# EAGLE library part LTC4015 (library chargers)
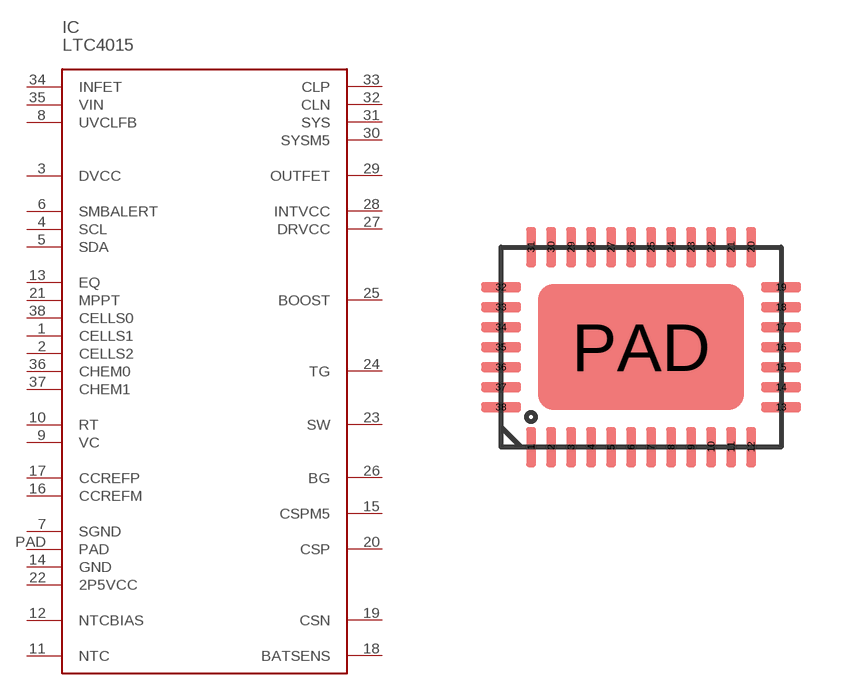
[diagram p1: symbol with the pads of QFN38; footprint QFN38]

Designator prefix IC

## LTC4015  [QFN38]
1  CELLS1
2  CELLS2
3  DVCC
4  SCL
5  SDA
6  SMBALERT
7  SGND
8  UVCLFB
9  VC
10  RT
11  NTC
12  NTCBIAS
13  EQ
14  GND
15  CSPM5
16  CCREFM
17  CCREFP
18  BATSENS
19  CSN
20  CSP
21  MPPT
22  2P5VCC
23  SW
24  TG
25  BOOST
26  BG
27  DRVCC
28  INTVCC
29  OUTFET
30  SYSM5
31  SYS
32  CLN
33  CLP
34  INFET
35  VIN
36  CHEM0
37  CHEM1
38  CELLS0
PAD  PAD

## Footprint QFN38 (pad centres in mm)
smd 0.25 x 1: 1 -2.75,-2.5; 2 -2.25,-2.5; 3 -1.75,-2.5; 4 -1.25,-2.5; 5 -0.75,-2.5; 6 -0.25,-2.5; 7 0.25,-2.5; 8 0.75,-2.5; 9 1.25,-2.5; 10 1.75,-2.5; 11 2.25,-2.5; 12 2.75,-2.5; 20 2.75,2.5; 21 2.25,2.5; 22 1.75,2.5; 23 1.25,2.5; 24 0.75,2.5; 25 0.25,2.5; 26 -0.25,2.5; 27 -0.75,2.5; 28 -1.25,2.5; 29 -1.75,2.5; 30 -2.25,2.5; 31 -2.75,2.5
smd 1 x 0.25: 13 3.5,-1.5; 14 3.5,-1; 15 3.5,-0.5; 16 3.5,0; 17 3.5,0.5; 18 3.5,1; 19 3.5,1.5; 32 -3.5,1.5; 33 -3.5,1; 34 -3.5,0.5; 35 -3.5,0; 36 -3.5,-0.5; 37 -3.5,-1; 38 -3.5,-1.5
smd 5.15 x 3.15: PAD 0,0